# Altium schematic symbol library SN74.SchLib: 4 symbols
Pins are listed as number, name and electrical type; pins without a type are passive.

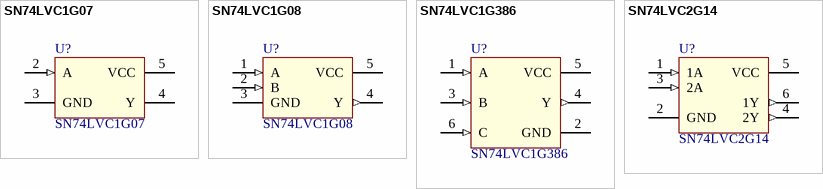
[diagram p0: symbols SN74LVC1G07 to SN74LVC2G14]

## SN74LVC1G07
designator U?
Single Buffer/Driver With Open-Drain Output; value: SN74LVC1G07
footprint SOT-23-5 (SOT23, 5-Leads, Body 2.9x1.6mm, Pitch 0.95mm, Lead Span 2.8mm, IPC Medium Density)
footprint SC-70-5 (DCK0005A) (SC-70, 5-Leads, Body 2.00x2.10mm, Pitch 0.65mm, IPC Medium Density)
pins: 2 A (in), 3 GND (power), 4 Y (oc), 5 VCC (power)

## SN74LVC1G08
designator U?
Single 2-Input Positive-AND Gate; value: SN74LVC1G08
footprint SOT-23-5 (SOT23, 5-Leads, Body 2.9x1.6mm, Pitch 0.95mm, Lead Span 2.8mm, IPC Medium Density)
footprint SC-70-5 (DCK0005A) (SC-70, 5-Leads, Body 2.00x2.10mm, Pitch 0.65mm, IPC Medium Density)
pins: 1 A (in), 2 B (in), 3 GND (power), 4 Y (out), 5 VCC (power)

## SN74LVC1G386
designator U?
Single 3-Input Positive-XOR Gate; value: SN74LVC1G386
footprint SOT-23-6 (SOT23, 6-Leads, Body 2.9x1.6mm, Pitch 0.95mm, Lead Span 2.8mm, IPC Medium Density)
pins: 1 A (in), 2 GND (power), 3 B (in), 4 Y (out), 5 VCC (power), 6 C (in)

## SN74LVC2G14
designator U?
Dual Schmitt-Trigger Inverter; value: SN74LVC1G386
footprint SOT-23-6 (SOT23, 6-Leads, Body 2.9x1.6mm, Pitch 0.95mm, Lead Span 2.8mm, IPC Medium Density)
pins: 1 1A (in), 2 GND (power), 3 2A (in), 4 2Y (out), 5 VCC (power), 6 1Y (out)